# Altium schematic symbol library acmelux-fpc.SchLib: 1 symbol
Pins are listed as number, name and electrical type; pins without a type are passive.

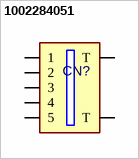
[diagram p0: symbol 1002284051]

## 1002284051
designator CN?
FPC Connector - 5 Contacts; Value: 1002284051; PN: 000000; Package: SMT; ExtraInfo: *
footprint 1002284051 (0.1mm pitch Connector for FPC - 5 contacts)
pins: 1, 2, 3, 4, 5, 6 T, 7 T